# Altium schematic symbol library USB_B_micro.SchLib: 2 symbols
Pins are listed as number, name and electrical type; pins without a type are passive.

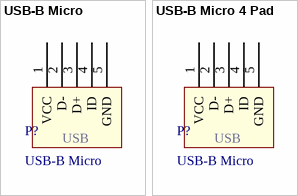
[diagram p0: symbols USB-B Micro to USB-B Micro 4 Pad]

## USB-B Micro
designator P?
USB_B SMT Connector
footprint USB_B_micro
pins: 1 VCC, 2 D-, 3 D+, 4 ID, 5 GND
text: USB

## USB-B Micro 4 Pad
designator P?, comment USB-B Micro
USB-B SMT Connector; Manufacturer Part No.: 0476100001; Digi-Key Part No.: WM14338CT-ND
footprint USB B Micro WM14338CT-ND (MOLEX Micro USB Connector WM14338CT-ND)
pins: 1 VCC, 2 D-, 3 D+, 4 ID, 5 GND
text: USB